# Altium schematic symbol library HDMI_SMD.SchLib: 1 symbol
Pins are listed as number, name and electrical type; pins without a type are passive.

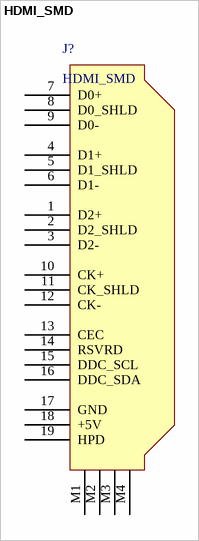
[diagram p0: symbol HDMI_SMD]

## HDMI_SMD
designator J?
pins: 1 D2+, 2 D2_SHLD, 3 D2-, 4 D1+, 5 D1_SHLD, 6 D1-, 7 D0+, 8 D0_SHLD, 9 D0-, 10 CK+, 11 CK_SHLD, 12 CK-, 13 CEC, 14 RSVRD, 15 DDC_SCL, 16 DDC_SDA, 17 GND, 18 +5V, 19 HPD, M1, M2, M3, M4